# Altium schematic symbol library SCH - MCU - STM32 - ST MICROELECTRONICS STM32G0B0VETX LQFP100.SchLib: 1 symbol
Pins are listed as number, name and electrical type; pins without a type are passive.

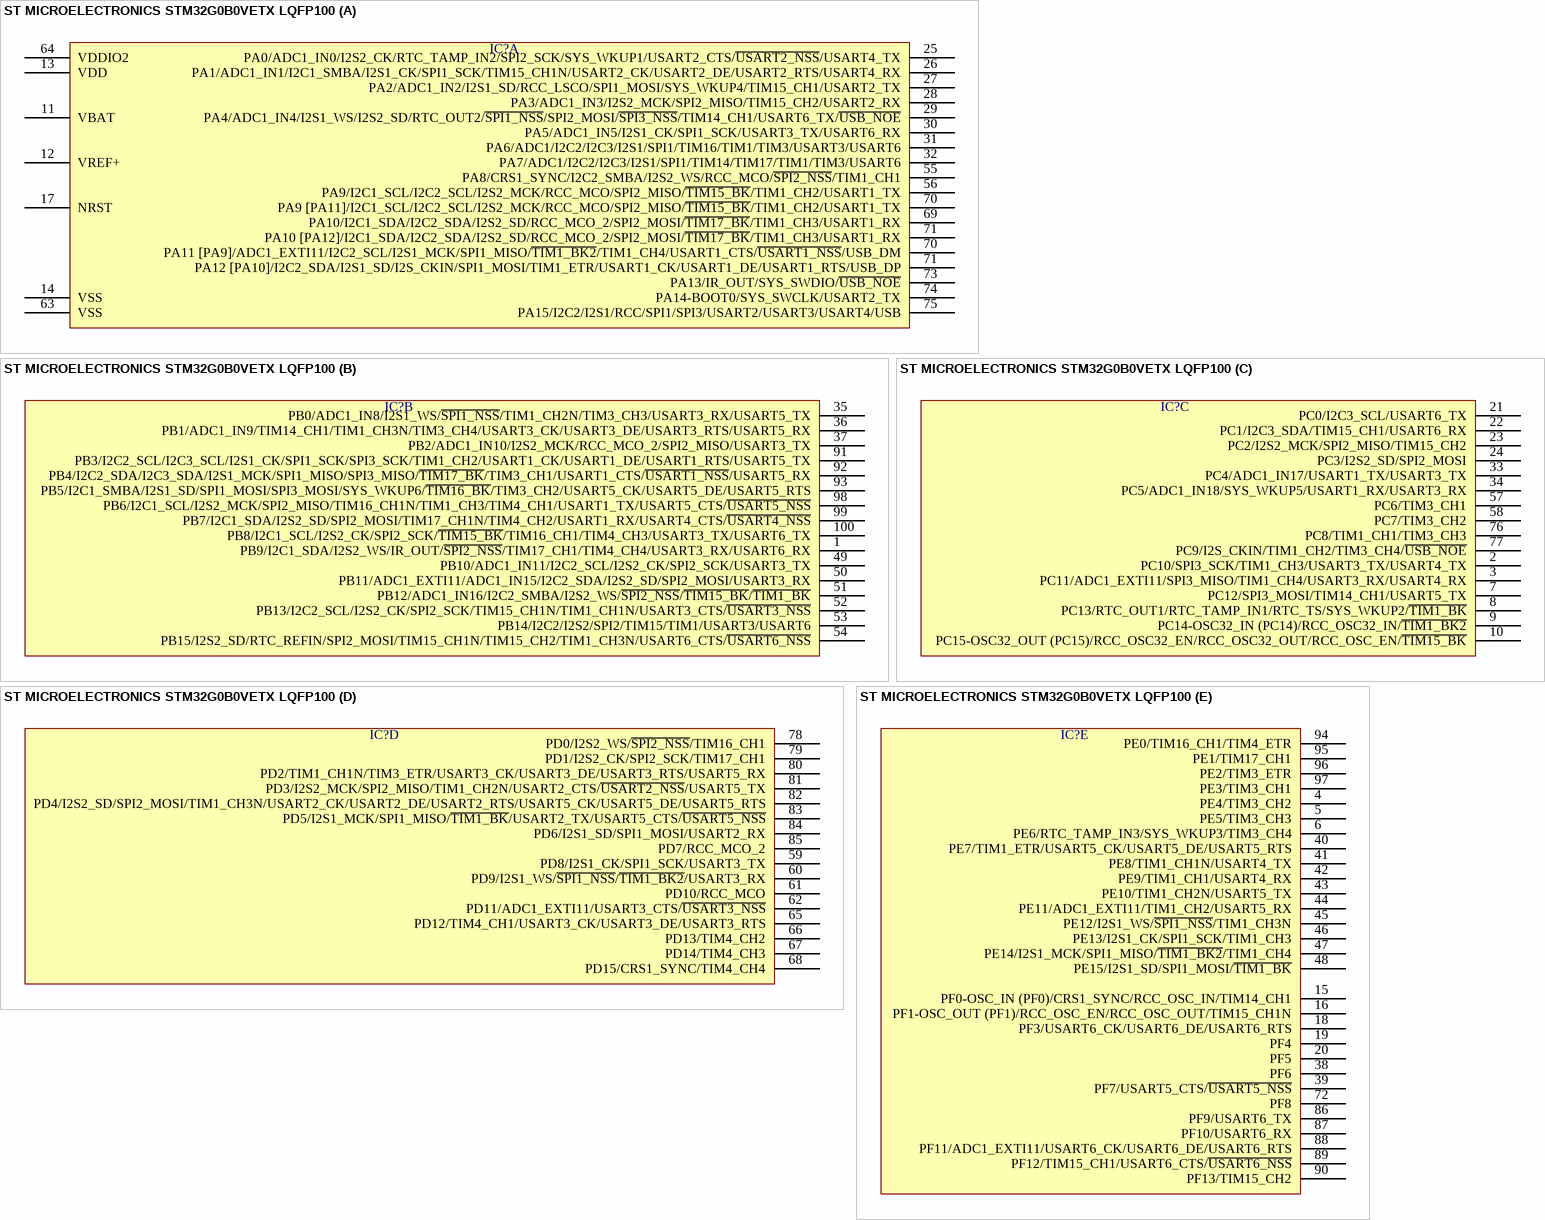
[diagram p0: symbol ST MICROELECTRONICS STM32G0B0VETX LQFP100]

## ST MICROELECTRONICS STM32G0B0VETX LQFP100
designator IC?  (value not drawn)
part A pins: 11 VBAT, 12 VREF+, 13 VDD, 14 VSS, 17 NRST, 25 PA0/ADC1_IN0/I2S2_CK/RTC_TAMP_IN2/SPI2_SCK/SYS_WKUP1/USART2_CTS/~{USART2_NSS}/USART4_TX, 26 PA1/ADC1_IN1/I2C1_SMBA/I2S1_CK/SPI1_SCK/TIM15_CH1N/USART2_CK/USART2_DE/USART2_RTS/USART4_RX, 27 PA2/ADC1_IN2/I2S1_SD/RCC_LSCO/SPI1_MOSI/SYS_WKUP4/TIM15_CH1/USART2_TX, 28 PA3/ADC1_IN3/I2S2_MCK/SPI2_MISO/TIM15_CH2/USART2_RX, 29 PA4/ADC1_IN4/I2S1_WS/I2S2_SD/RTC_OUT2/~{SPI1_NSS}/SPI2_MOSI/~{SPI3_NSS}/TIM14_CH1/USART6_TX/~{USB_NOE}, 30 PA5/ADC1_IN5/I2S1_CK/SPI1_SCK/USART3_TX/USART6_RX, 31 PA6/ADC1/I2C2/I2C3/I2S1/SPI1/TIM16/TIM1/TIM3/USART3/USART6, 32 PA7/ADC1/I2C2/I2C3/I2S1/SPI1/TIM14/TIM17/TIM1/TIM3/USART6, 55 PA8/CRS1_SYNC/I2C2_SMBA/I2S2_WS/RCC_MCO/~{SPI2_NSS}/TIM1_CH1, 56 PA9/I2C1_SCL/I2C2_SCL/I2S2_MCK/RCC_MCO/SPI2_MISO/~{TIM15_BK}/TIM1_CH2/USART1_TX, 63 VSS, 64 VDDIO2, 69 PA10/I2C1_SDA/I2C2_SDA/I2S2_SD/RCC_MCO_2/SPI2_MOSI/~{TIM17_BK}/TIM1_CH3/USART1_RX, 70 PA9 [PA11]/I2C1_SCL/I2C2_SCL/I2S2_MCK/RCC_MCO/SPI2_MISO/~{TIM15_BK}/TIM1_CH2/USART1_TX, 70 PA11 [PA9]/ADC1_EXTI11/I2C2_SCL/I2S1_MCK/SPI1_MISO/~{TIM1_BK2}/TIM1_CH4/USART1_CTS/~{USART1_NSS}/USB_DM, 71 PA10 [PA12]/I2C1_SDA/I2C2_SDA/I2S2_SD/RCC_MCO_2/SPI2_MOSI/~{TIM17_BK}/TIM1_CH3/USART1_RX, 71 PA12 [PA10]/I2C2_SDA/I2S1_SD/I2S_CKIN/SPI1_MOSI/TIM1_ETR/USART1_CK/USART1_DE/USART1_RTS/USB_DP, 73 PA13/IR_OUT/SYS_SWDIO/~{USB_NOE}, 74 PA14-BOOT0/SYS_SWCLK/USART2_TX, 75 PA15/I2C2/I2S1/RCC/SPI1/SPI3/USART2/USART3/USART4/USB
part B pins: 1 PB9/I2C1_SDA/I2S2_WS/IR_OUT/~{SPI2_NSS}/TIM17_CH1/TIM4_CH4/USART3_RX/USART6_RX, 35 PB0/ADC1_IN8/I2S1_WS/~{SPI1_NSS}/TIM1_CH2N/TIM3_CH3/USART3_RX/USART5_TX, 36 PB1/ADC1_IN9/TIM14_CH1/TIM1_CH3N/TIM3_CH4/USART3_CK/USART3_DE/USART3_RTS/USART5_RX, 37 PB2/ADC1_IN10/I2S2_MCK/RCC_MCO_2/SPI2_MISO/USART3_TX, 49 PB10/ADC1_IN11/I2C2_SCL/I2S2_CK/SPI2_SCK/USART3_TX, 50 PB11/ADC1_EXTI11/ADC1_IN15/I2C2_SDA/I2S2_SD/SPI2_MOSI/USART3_RX, 51 PB12/ADC1_IN16/I2C2_SMBA/I2S2_WS/~{SPI2_NSS}/~{TIM15_BK}/~{TIM1_BK}, 52 PB13/I2C2_SCL/I2S2_CK/SPI2_SCK/TIM15_CH1N/TIM1_CH1N/USART3_CTS/~{USART3_NSS}, 53 PB14/I2C2/I2S2/SPI2/TIM15/TIM1/USART3/USART6, 54 PB15/I2S2_SD/RTC_REFIN/SPI2_MOSI/TIM15_CH1N/TIM15_CH2/TIM1_CH3N/USART6_CTS/~{USART6_NSS}, 91 PB3/I2C2_SCL/I2C3_SCL/I2S1_CK/SPI1_SCK/SPI3_SCK/TIM1_CH2/USART1_CK/USART1_DE/USART1_RTS/USART5_TX, 92 PB4/I2C2_SDA/I2C3_SDA/I2S1_MCK/SPI1_MISO/SPI3_MISO/~{TIM17_BK}/TIM3_CH1/USART1_CTS/~{USART1_NSS}/USART5_RX, 93 PB5/I2C1_SMBA/I2S1_SD/SPI1_MOSI/SPI3_MOSI/SYS_WKUP6/~{TIM16_BK}/TIM3_CH2/USART5_CK/USART5_DE/USART5_RTS, 98 PB6/I2C1_SCL/I2S2_MCK/SPI2_MISO/TIM16_CH1N/TIM1_CH3/TIM4_CH1/USART1_TX/USART5_CTS/~{USART5_NSS}, 99 PB7/I2C1_SDA/I2S2_SD/SPI2_MOSI/TIM17_CH1N/TIM4_CH2/USART1_RX/USART4_CTS/~{USART4_NSS}, 100 PB8/I2C1_SCL/I2S2_CK/SPI2_SCK/~{TIM15_BK}/TIM16_CH1/TIM4_CH3/USART3_TX/USART6_TX
part C pins: 2 PC10/SPI3_SCK/TIM1_CH3/USART3_TX/USART4_TX, 3 PC11/ADC1_EXTI11/SPI3_MISO/TIM1_CH4/USART3_RX/USART4_RX, 7 PC12/SPI3_MOSI/TIM14_CH1/USART5_TX, 8 PC13/RTC_OUT1/RTC_TAMP_IN1/RTC_TS/SYS_WKUP2/~{TIM1_BK}, 9 PC14-OSC32_IN (PC14)/RCC_OSC32_IN/~{TIM1_BK2}, 10 PC15-OSC32_OUT (PC15)/RCC_OSC32_EN/RCC_OSC32_OUT/RCC_OSC_EN/~{TIM15_BK}, 21 PC0/I2C3_SCL/USART6_TX, 22 PC1/I2C3_SDA/TIM15_CH1/USART6_RX, 23 PC2/I2S2_MCK/SPI2_MISO/TIM15_CH2, 24 PC3/I2S2_SD/SPI2_MOSI, 33 PC4/ADC1_IN17/USART1_TX/USART3_TX, 34 PC5/ADC1_IN18/SYS_WKUP5/USART1_RX/USART3_RX, 57 PC6/TIM3_CH1, 58 PC7/TIM3_CH2, 76 PC8/TIM1_CH1/TIM3_CH3, 77 PC9/I2S_CKIN/TIM1_CH2/TIM3_CH4/~{USB_NOE}
part D pins: 59 PD8/I2S1_CK/SPI1_SCK/USART3_TX, 60 PD9/I2S1_WS/~{SPI1_NSS}/~{TIM1_BK2}/USART3_RX, 61 PD10/RCC_MCO, 62 PD11/ADC1_EXTI11/USART3_CTS/~{USART3_NSS}, 65 PD12/TIM4_CH1/USART3_CK/USART3_DE/USART3_RTS, 66 PD13/TIM4_CH2, 67 PD14/TIM4_CH3, 68 PD15/CRS1_SYNC/TIM4_CH4, 78 PD0/I2S2_WS/~{SPI2_NSS}/TIM16_CH1, 79 PD1/I2S2_CK/SPI2_SCK/TIM17_CH1, 80 PD2/TIM1_CH1N/TIM3_ETR/USART3_CK/USART3_DE/USART3_RTS/USART5_RX, 81 PD3/I2S2_MCK/SPI2_MISO/TIM1_CH2N/USART2_CTS/~{USART2_NSS}/USART5_TX, 82 PD4/I2S2_SD/SPI2_MOSI/TIM1_CH3N/USART2_CK/USART2_DE/USART2_RTS/USART5_CK/USART5_DE/USART5_RTS, 83 PD5/I2S1_MCK/SPI1_MISO/~{TIM1_BK}/USART2_TX/USART5_CTS/~{USART5_NSS}, 84 PD6/I2S1_SD/SPI1_MOSI/USART2_RX, 85 PD7/RCC_MCO_2
part E pins: 4 PE4/TIM3_CH2, 5 PE5/TIM3_CH3, 6 PE6/RTC_TAMP_IN3/SYS_WKUP3/TIM3_CH4, 15 PF0-OSC_IN (PF0)/CRS1_SYNC/RCC_OSC_IN/TIM14_CH1, 16 PF1-OSC_OUT (PF1)/RCC_OSC_EN/RCC_OSC_OUT/TIM15_CH1N, 18 PF3/USART6_CK/USART6_DE/USART6_RTS, 19 PF4, 20 PF5, 38 PF6, 39 PF7/USART5_CTS/~{USART5_NSS}, 40 PE7/TIM1_ETR/USART5_CK/USART5_DE/USART5_RTS, 41 PE8/TIM1_CH1N/USART4_TX, 42 PE9/TIM1_CH1/USART4_RX, 43 PE10/TIM1_CH2N/USART5_TX, 44 PE11/ADC1_EXTI11/TIM1_CH2/USART5_RX, 45 PE12/I2S1_WS/~{SPI1_NSS}/TIM1_CH3N, 46 PE13/I2S1_CK/SPI1_SCK/TIM1_CH3, 47 PE14/I2S1_MCK/SPI1_MISO/~{TIM1_BK2}/TIM1_CH4, 48 PE15/I2S1_SD/SPI1_MOSI/~{TIM1_BK}, 72 PF8, 86 PF9/USART6_TX, 87 PF10/USART6_RX, 88 PF11/ADC1_EXTI11/USART6_CK/USART6_DE/USART6_RTS, 89 PF12/TIM15_CH1/USART6_CTS/~{USART6_NSS}, 90 PF13/TIM15_CH2, 94 PE0/TIM16_CH1/TIM4_ETR, 95 PE1/TIM17_CH1, 96 PE2/TIM3_ETR, 97 PE3/TIM3_CH1